# Altium footprint library 691 332 510 0xx.PcbLib: 6 footprints
Each footprint in its own frame and in the unit in brackets; x right, y up, seen from the top. Pads: shape width x height; smd on the part's side, far side on the other; paste and mask are expansions set on the pad; w line width, h text height; cw(c..) or ccw(c..) is an arc to the next point about the centre after c.
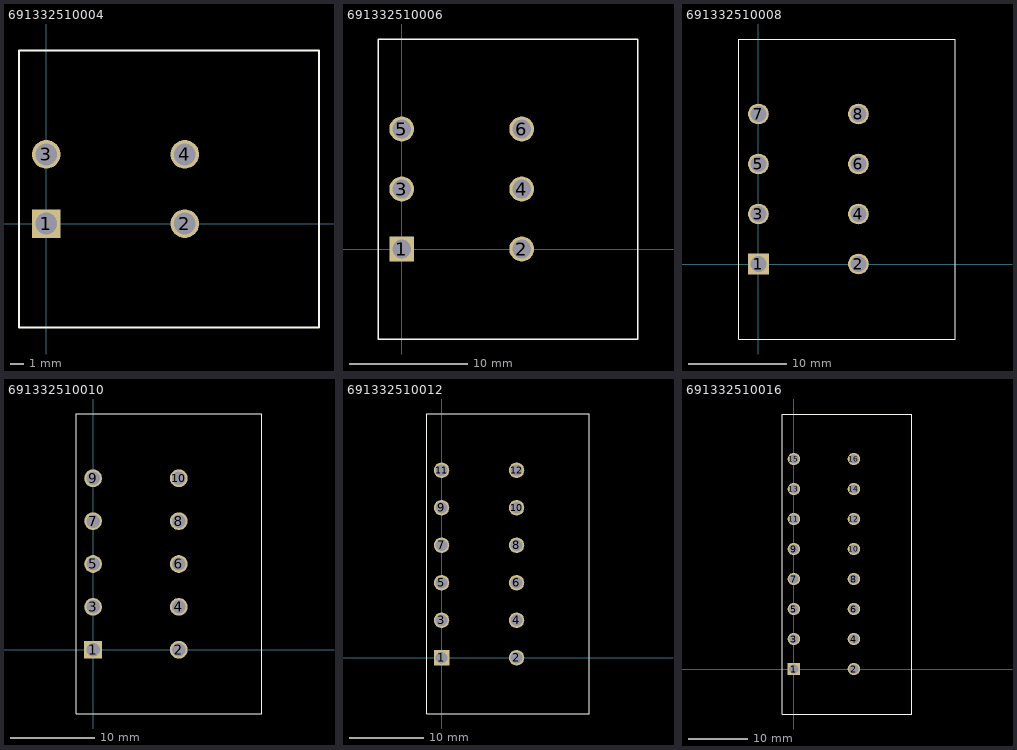
[diagram p0: the footprints below, top view; thin cyan lines are the x and y axes]

## 691332510004 [mm] "5,08mm - PCB - Dual row - Horizontal - Flanges - 04p"
height 28.8
pads (4):
  rect 2.1x2.1 hole 1.6: 1(0,0)
  round 2.1 hole 1.6: 2(10.16,0) 3(0,5.08) 4(10.16,5.08)
Top Overlay:
  lines w0.127: -2,-7.62 -2,12.7 20,12.7 20,-7.62 -2,-7.62
3D body: height 28.81, standoff -3.99, extent -2,-7.62 20,12.7

## 691332510006 [mm] "5,08mm - PCB - Dual row - Horizontal - Flanges - 06p"
height 28.8
pads (6):
  rect 2.1x2.1 hole 1.6: 1(0,0)
  round 2.1 hole 1.6: 2(10.16,0) 3(0,5.08) 4(10.16,5.08) 5(0,10.16) 6(10.16,10.16)
Top Overlay:
  lines w0.127: -2,-2.54 -2,17.78 20,17.78 20,-2.54 ; -2,12.7 -2,-7.62 20,-7.62 20,12.7
3D body: height 28.81, standoff -3.99, extent -2.1,-7.62 20,17.78

## 691332510008 [mm] "5,08mm - PCB - Dual row - Horizontal - Flanges - 08p"
height 28.8
pads (8):
  rect 2.1x2.1 hole 1.6: 1(0,0)
  round 2.1 hole 1.6: 2(10.16,0) 3(0,5.08) 4(10.16,5.08) 5(0,10.16) 6(10.16,10.16) 7(0,15.24) 8(10.16,15.24)
Top Overlay:
  lines w0.127: -2,2.54 -2,22.86 20,22.86 20,2.54 ; -2,12.7 -2,-7.62 20,-7.62 20,12.7
3D body: height 28.81, standoff -3.99, extent -2.1,-7.62 20,22.86

## 691332510010 [mm] "5,08mm - PCB - Dual row - Horizontal - Flanges - 10p"
height 28.8
pads (10):
  rect 2.1x2.1 hole 1.6: 1(0,0)
  round 2.1 hole 1.6: 2(10.16,0) 3(0,5.08) 4(10.16,5.08) 5(0,10.16) 6(10.16,10.16) 7(0,15.24) 8(10.16,15.24) 9(0,20.32) 10(10.16,20.32)
Top Overlay:
  lines w0.127: -2,2.54 -2,22.86 ; -2,7.62 -2,27.94 20,27.94 20,7.62 ; -2,12.7 -2,-7.62 20,-7.62 20,12.7 ; 20,2.54 20,22.86
3D body: height 28.81, standoff -3.99, extent -2.1,-7.62 20,27.94

## 691332510012 [mm] "5,08mm - PCB - Dual row - Horizontal - Flanges - 12p"
height 28.8
pads (12):
  rect 2.1x2.1 hole 1.6: 1(0,0)
  round 2.1 hole 1.6: 2(10.16,0) 3(0,5.08) 4(10.16,5.08) 5(0,10.16) 6(10.16,10.16) 7(0,15.24) 8(10.16,15.24) 9(0,20.32) 10(10.16,20.32) 11(0,25.4) 12(10.16,25.4)
Top Overlay:
  lines w0.127: -2,2.54 -2,22.86 ; 20,2.54 20,22.86 ; -2,-7.62 -2,12.7 -2,33.02 20,33.02 20,12.7 20,-7.62 -2,-7.62
3D body: height 28.81, standoff -3.99, extent -2.1,-7.62 20,33.02

## 691332510016 [mm] "5,08mm - PCB - Dual row - Horizontal - Flanges - 16p"
height 28.8
pads (16):
  rect 2.1x2.1 hole 1.6: 1(0,0)
  round 2.1 hole 1.6: 2(10.16,0) 3(0,5.08) 4(10.16,5.08) 5(0,10.16) 6(10.16,10.16) 7(0,15.24) 8(10.16,15.24) 9(0,20.32) 10(10.16,20.32) 11(0,25.4) 12(10.16,25.4) 13(0,30.48) 14(10.16,30.48) 15(0,35.56) 16(10.16,35.56)
Top Overlay:
  lines w0.127: -2,2.54 -2,22.86 -2,43.18 20,43.18 20,22.86 20,2.54 ; -2,33.02 -2,12.7 -2,-7.62 20,-7.62 20,12.7 20,33.02
3D body: height 28.81, standoff -3.99, extent -2.1,-7.62 20,43.18